# Altium schematic symbol library KB-E6A1.SchLib: 1 symbol
Pins are listed as number, name and electrical type; pins without a type are passive.

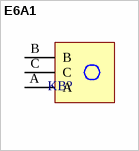
[diagram p0: symbol E6A1]

## E6A1
designator KB?
pins: A, B, C